# EAGLE library part ＩS-2235 (library !switch)
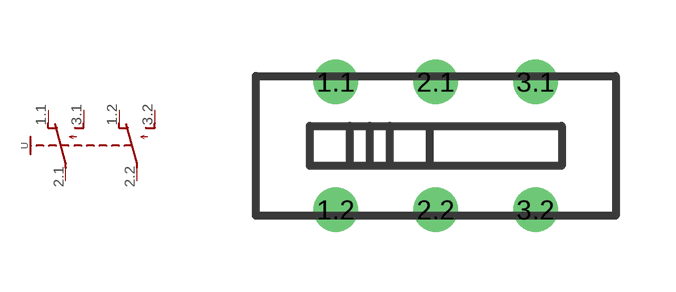
[diagram p0: symbol with the pads of ＩS-2235; footprint ＩS-2235]

Designator prefix -

## ＩS-2235  [ＩS-2235]
1.1  O  pas
1.2  O1  pas
2.1  P  pas
2.2  P1  pas
3.1  S  pas
3.2  S1  pas

## Footprint ＩS-2235 (pad centres in mm)
drill 0.6: 1.1 -2.5,1.6; 1.2 -2.5,-1.6; 2.1 0,1.6; 2.2 0,-1.6; 3.1 2.5,1.6; 3.2 2.5,-1.6